# Altium schematic symbol library PASSIVES-FerriteChip.SCHLIB: 1 symbol
Pins are listed as number, name and electrical type; pins without a type are passive.

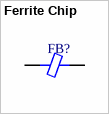
[diagram p0: symbol Ferrite Chip]

## Ferrite Chip
designator FB?
pins: 1, 2